# Altium schematic symbol library 1_P1.SCHLIB: 24 symbols
Pins are listed as number, name and electrical type; pins without a type are passive.

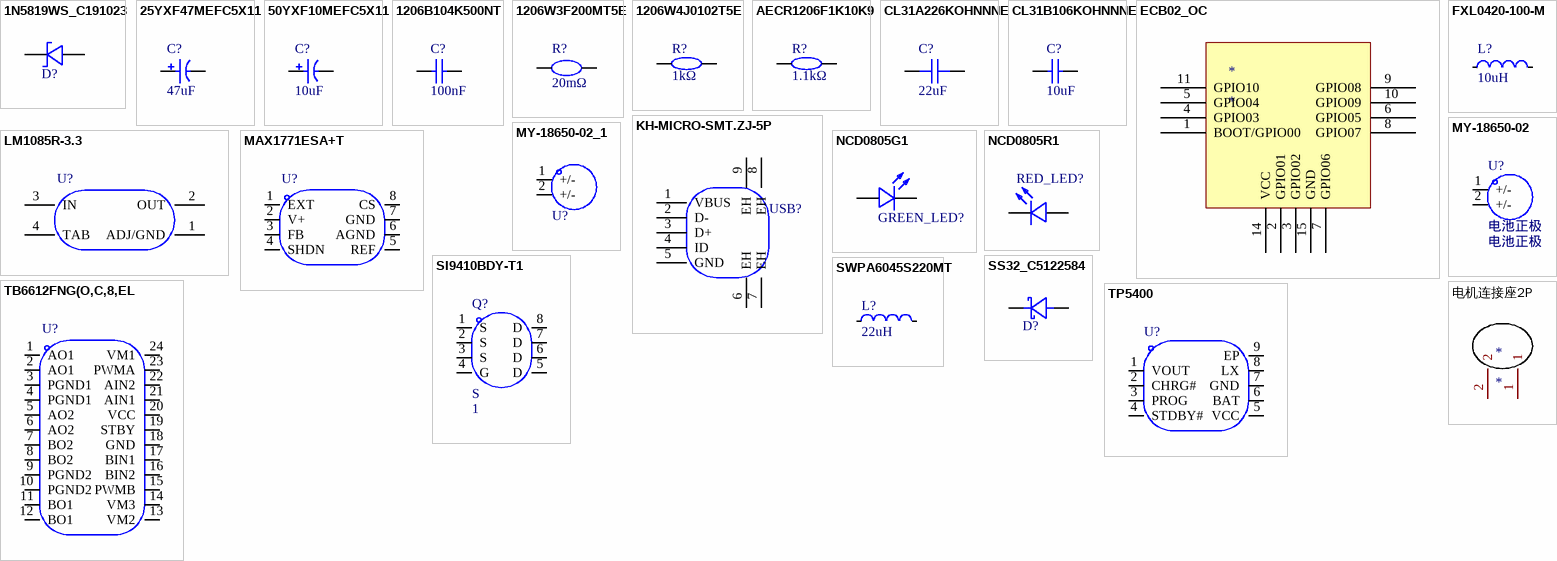
[diagram p0: symbols 1N5819WS_C191023 to 电机连接座2P]

## 1N5819WS_C191023
designator D?
Manufacturer: Hottech(合科泰); Symbol: 1N5819WS; Device: 1N5819WS_C191023; Add into BOM: yes; Reverse Voltage (Vr): 40V; Average Rectified Current (Io): 1A; Forward Voltage (Vf@If): 600mV@1A; LCSC Part Name: 40V 1A 600mV@1A; Supplier Part: C191023; Manufacturer Part: 1N5819WS; Supplier Footprint: SOD-323; JLCPCB Part Class: Basic Part; Datasheet: https://atta.szlcsc.com/upload/public/pdf/source/20180614/C191023_3C6A6398B911F3A4C23E7538EE054643.pdf; Supplier: LCSC; Convert to PCB: yes
footprint SOD-323_L1.8-W1.3-LS2.5-RD
3D model SOD-323_L1.7-W1.3-H1.1-LS2.5
pins: 1 C, 2 A

## 25YXF47MEFC5X11
designator C?  value 47uF
Manufacturer: rubycon(红宝石); Symbol: 25YXF47MEFC5X11; Add into BOM: yes; Lifetime @ Temp: 5000hrs 105; Equivalent Series Resistance(ESR): 900mΩ 100kHz; Ripple Current: 150mA 100kHz; φD: 5mm; Tolerance: ±20%; L: 11mm; Rated Voltage: 25V; Device: 25YXF47MEFC5X11; LCSC Part Name: 47uF 25V; Supplier Part: C88724; Manufacturer Part: 25YXF47MEFC5X11; Supplier Footprint: 径向引线,5x11mm; JLCPCB Part Class: Extended Part; Datasheet: https://atta.szlcsc.com/upload/public/pdf/source/20161125/1480067870852.pdf; Supplier: LCSC; Convert to PCB: yes; Lead Spacing: 2mm; Operating Temperature: -
footprint CAP-TH_BD5.0-P2.00-D0.8-FD
3D model CAP-TH_D5.0H7.0P2.0
pins: 1, 2

## 50YXF10MEFC5X11
designator C?  value 10uF
Manufacturer: rubycon(红宝石); Symbol: 50YXF10MEFC5X11; Add into BOM: yes; Lifetime @ Temp: 5000hrs 105; Rated Voltage: 50V; Tolerance: ±20%; φD: 5mm; L: 11mm; Device: 50YXF10MEFC5X11; LCSC Part Name: 10uF 50V; Supplier Part: C88726; Manufacturer Part: 50YXF10MEFC5X11; Supplier Footprint: 径向引线,5x11mm; JLCPCB Part Class: Extended Part; Datasheet: https://atta.szlcsc.com/upload/public/pdf/source/20161125/1480067871572.pdf; Supplier: LCSC; Convert to PCB: yes; Lead Spacing: 2mm; Operating Temperature: -
footprint CAP-TH_BD5.0-P2.00-D0.8-FD
3D model CAP-TH_D5.0H7.0P2.0
pins: 1, 2

## 1206B104K500NT
designator C?  value 100nF
Manufacturer: FH(风华); Symbol: 1206B104K500NT; Add into BOM: yes; Tolerance: ±10%; Voltage Rated: 50V; Temperature Coefficient: X7R; Device: 1206B104K500NT; LCSC Part Name: 100nF ±10% 50V; Supplier Part: C110253; Manufacturer Part: 1206B104K500NT; Supplier Footprint: 1206; JLCPCB Part Class: Extended Part; Datasheet: https://atta.szlcsc.com/upload/public/pdf/source/20170923/C110253_1506149246670988311.pdf; Supplier: LCSC; Convert to PCB: yes
footprint C1206
3D model C1206_L3.2-W1.6-H1.3
pins: 1, 2

## 1206W3F200MT5E
designator R?  value 20mΩ
Manufacturer: UNI-ROYAL(厚声); Symbol: 1206W3F200MT5E; Add into BOM: yes; Tolerance: ±1%; Power(Watts): 1/3W; Temperature Coefficient: ±1000ppm/; Overload Voltage (Max): 200V; Device: 1206W3F200MT5E; LCSC Part Name: 20mΩ ±1%; Supplier Part: C2765435; Manufacturer Part: 1206W3F200MT5E; Supplier Footprint: 1206; JLCPCB Part Class: Extended Part; Datasheet: https://atta.szlcsc.com/upload/public/pdf/source/20200306/C422600_1E6D84923E4A46A82E41ADD87F860B5C.pdf; Supplier: LCSC; Convert to PCB: yes; Type: 厚膜电阻; Operating Temperature Range: -55~+155
footprint R1206
3D model R1206_L3.2-W1.6-H0.6
pins: 1, 2

## 1206W4J0102T5E
designator R?  value 1kΩ
Manufacturer: UNI-ROYAL(厚声); Symbol: 1206W4J0102T5E; Add into BOM: yes; Tolerance: ±5%; Power(Watts): 250mW; Temperature Coefficient: ±100ppm/; Overload Voltage (Max): 200V; Device: 1206W4J0102T5E; LCSC Part Name: 1kΩ ±5%; Supplier Part: C1469; Manufacturer Part: 1206W4J0102T5E; Supplier Footprint: 1206; JLCPCB Part Class: Extended Part; Datasheet: https://atta.szlcsc.com/upload/public/pdf/source/20200306/C422600_1E6D84923E4A46A82E41ADD87F860B5C.pdf; Supplier: LCSC; Convert to PCB: yes; Type: 厚膜电阻; Operating Temperature Range: -55~+155
footprint R1206
3D model R1206_L3.2-W1.6-H0.6
pins: 1, 2

## AECR1206F1K10K9
designator R?  value 1.1kΩ
Manufacturer: RESI(开步睿思）; Symbol: AECR1206F1K10K9; Add into BOM: yes; Tolerance: ±1%; Power(Watts): 250mW; Temperature Coefficient: ±100ppm/; Overload Voltage (Max): 200V; Device: AECR1206F1K10K9; LCSC Part Name: 1.1kΩ ±1%; Supplier Part: C352136; Manufacturer Part: AECR1206F1K10K9; Supplier Footprint: 1206; JLCPCB Part Class: Extended Part; Datasheet: https://atta.szlcsc.com/upload/public/pdf/source/20181212/C352136_D341163928B058579362732989CD352F.pdf; Supplier: LCSC; Convert to PCB: yes; Type: 厚膜电阻; Operating Temperature Range: -55~+125
footprint R1206
3D model R1206_L3.2-W1.6-H0.6
pins: 1, 2

## CL31A226KOHNNNE
designator C?  value 22uF
Manufacturer: SAMSUNG(三星); Symbol: CL31A226KOHNNNE; Add into BOM: yes; Temperature Coefficient: X5R; Tolerance: ±10%; Voltage Rated: 16V; Device: CL31A226KOHNNNE; LCSC Part Name: 22uF(226）±10% 16V; Supplier Part: C90146; Manufacturer Part: CL31A226KOHNNNE; Supplier Footprint: 1206; JLCPCB Part Class: Extended Part; Datasheet: https://atta.szlcsc.com/upload/public/pdf/source/20161228/1482890861309.pdf; Supplier: LCSC; Convert to PCB: yes
footprint C1206
3D model C1206_L3.2-W1.6-H1.3
pins: 1, 2

## CL31B106KOHNNNE
designator C?  value 10uF
Manufacturer: SAMSUNG(三星); Symbol: CL31B106KOHNNNE; Add into BOM: yes; Tolerance: ±10%; Voltage Rated: 16V; Temperature Coefficient: X7R; Device: CL31B106KOHNNNE; LCSC Part Name: 10uF ±10% 16V; Supplier Part: C47971; Manufacturer Part: CL31B106KOHNNNE; Supplier Footprint: 1206; JLCPCB Part Class: Extended Part; Datasheet: https://atta.szlcsc.com/upload/public/pdf/source/20160103/1457707729539.pdf; Supplier: LCSC; Convert to PCB: yes
footprint C1206
3D model C1206_L3.2-W1.6-H1.3
pins: 1, 2

## ECB02_OC
designator *
footprint ECB02_OC (易加蓝牙单片机)
pins: 1 BOOT/GPIO00, 2 GPIO01, 3 GPIO02, 4 GPIO03, 5 GPIO04, 6 GPIO05, 7 GPIO06, 8 GPIO07, 9 GPIO08, 10 GPIO09, 11 GPIO10, 14 VCC, 15 GND

## FXL0420-100-M
designator L?  value 10uH
Manufacturer: cjiang(长江微电); Symbol: FXL0420-100-M; Add into BOM: yes; Tolerance: ±20%; Rated Current: 1.6A; Saturation Current (Isat): 2.2A; DC Resistance (DCR): 256mΩ; Device: FXL0420-100-M; LCSC Part Name: 10uh ±20% 1.6A 256mΩ; Supplier Part: C177242; Manufacturer Part: FXL0420-100-M; Supplier Footprint: SMD,0402; JLCPCB Part Class: Extended Part; Datasheet: https://atta.szlcsc.com/upload/public/pdf/source/20190322/C177242_7133EB0BD355D19A776CED3EC89322B8.pdf; Supplier: LCSC; Convert to PCB: yes
footprint IND-SMD_L4.4-W4.2
3D model IND-SMD_L4.2-W4.4-H2.0
pins: 1, 2

## KH-MICRO-SMT.ZJ-5P
designator USB?
Manufacturer: kinghelm(金航标); Symbol: KH-MICRO-SMT.ZJ-5P; Add into BOM: yes; Connector Type: Micro-B; Gender: 母座; Number of Contacts: 5; Number of Ports: 1; Device: KH-MICRO-SMT.ZJ-5P; LCSC Part Name: Micro-B 母座 卧贴; Supplier Part: C2688803; Manufacturer Part: KH-MICRO-SMT.ZJ-5P; Supplier Footprint: SMD; JLCPCB Part Class: Extended Part; Datasheet: https://atta.szlcsc.com/upload/public/pdf/source/20210202/C2688803_645B8B57EA53555BCB25BD27C52ECCFB.pdf; Supplier: LCSC; Convert to PCB: yes; Standard: USB 2.0; Mounting Style: 卧贴; Current Rating - Power (Max): -; Operating Temperature Range: -30~+80
footprint MICRO-USB-SMD_KH-MICRO-SMT.ZJ-5P
3D model MICRO-USB-SMD_KH-MICRO-SMT.ZJ-5P
pins: 1 VBUS, 2 D-, 3 D+, 4 ID, 5 GND, 6 EH, 7 EH, 8 EH, 9 EH

## LM1085R-3.3
designator U?
Manufacturer: HTC; Symbol: LM1085R-3.3; Add into BOM: yes; Output Type: 固定; Output Polarity: 正; Number of Outputs: 1; Maximum Input Voltage: 12V; Output Voltage: 3.3V; Dropout Voltage: 1.5V@(3A); Output Current: 3A; Device: LM1085R-3.3; LCSC Part Name: Vin=12V Vout=3.3V 3A; Supplier Part: C126016; Manufacturer Part: LM1085R-3.3; Supplier Footprint: TO-263-3; JLCPCB Part Class: Extended Part; Datasheet: https://atta.szlcsc.com/upload/public/pdf/source/20170814/C126016_1502678369734885888.pdf; Supplier: LCSC; Convert to PCB: yes; Power Supply Rejection Ratio (PRSS): -
footprint TO-263-3L_L10.0-W9.2-P2.54-TL
3D model TO-263-3_L10.2-W8.7-H4.5-LS14.4-P2.54
pins: 1 ADJ/GND, 2 OUT, 3 IN, 4 TAB

## MAX1771ESA+T
designator U?
Manufacturer: MAXIM(美信); Symbol: MAX1771ESA+T; Add into BOM: yes; Function: 升降压型; Synchronous Rectification: 否; Number of Outputs: 1; Topology: 升降压式；升压式; Input Voltage: 3V~16.5V; Switching Frequency: 300kHz; Duty Cycle (Max): 92%; Device: MAX1771ESA+T; LCSC Part Name: 升降压型 3V~16.5V 300kHz; Supplier Part: C407903; Manufacturer Part: MAX1771ESA+T; Supplier Footprint: SO-8; JLCPCB Part Class: Extended Part; Datasheet: https://atta.szlcsc.com/upload/public/pdf/source/20190725/C407903_D57A782B028863ED6FB84B5C72F3E59A.pdf; Supplier: LCSC; Convert to PCB: yes; Operating Temperature: -40~+85@(TA)
footprint SO-8_L4.9-W3.9-P1.27-LS6.0-BL
3D model SO-8_L4.9-W3.9-P1.27-LS6.0-BL
pins: 1 EXT, 2 V+, 3 FB, 4 SHDN, 5 REF, 6 AGND, 7 GND, 8 CS

## MY-18650-02
designator U?, comment 电池正极
Manufacturer: MYOUNG(美阳); Symbol: MY-18650-02; Add into BOM: yes; Name: 电池正极; Device: MY-18650-02; LCSC Part Name: 18650电池夹; Supplier Part: C2979182; Manufacturer Part: MY-18650-02; Supplier Footprint: SMD; JLCPCB Part Class: Extended Part; Datasheet: https://atta.szlcsc.com/upload/public/pdf/source/20220302/C8C484F04049224A79B93DF7FB83EA3E.pdf; Supplier: LCSC; Convert to PCB: yes
footprint BAT-SMD_MY-18650-02
3D model BAT-SMD_MY-18650-02
pins: 1 +/-, 2 +/-

## MY-18650-02_1
designator U?, comment 电池负极  (value not drawn)
Manufacturer: MYOUNG(美阳); Symbol: MY-18650-02; Add into BOM: yes; Name: 电池负极; Device: MY-18650-02; LCSC Part Name: 18650电池夹; Supplier Part: C2979182; Manufacturer Part: MY-18650-02; Supplier Footprint: SMD; JLCPCB Part Class: Extended Part; Datasheet: https://atta.szlcsc.com/upload/public/pdf/source/20220302/C8C484F04049224A79B93DF7FB83EA3E.pdf; Supplier: LCSC; Convert to PCB: yes
footprint BAT-SMD_MY-18650-02 (Footprint not found)
3D model BAT-SMD_MY-18650-02
pins: 1 +/-, 2 +/-

## NCD0805G1
designator GREEN_LED?
Manufacturer: 国星光电; Symbol: FC-2012UGK-520D5; Device: NCD0805G1; Add into BOM: yes; Emitted Color: 翠绿; LCSC Part Name: 翠绿; Supplier Part: C84260; Manufacturer Part: NCD0805G1; Supplier Footprint: 0805; JLCPCB Part Class: Extended Part; Datasheet: https://atta.szlcsc.com/upload/public/pdf/source/20200820/C84260_AFC7BF57C6FBA034D182BB8D10A67EFE.pdf; Supplier: LCSC; Convert to PCB: yes
footprint LED0805-R-RD
3D model LED0805-RD
pins: 1 A, 2 K

## NCD0805R1
designator RED_LED?
Manufacturer: 国星光电; Symbol: FC-2012HRK-620D; Device: NCD0805R1; Add into BOM: yes; Emitted Color: 红灯; LCSC Part Name: 红灯; Supplier Part: C84256; Manufacturer Part: NCD0805R1; Supplier Footprint: 0805; JLCPCB Part Class: Basic Part; Datasheet: https://atta.szlcsc.com/upload/public/pdf/source/20200820/C84256_F0A75A43B3EAD75808600A0514C76B99.pdf; Supplier: LCSC; Convert to PCB: yes
footprint LED0805-RD_RED
3D model LED0805-RD_RED
pins: 1 -, 2 +

## SI9410BDY-T1
designator Q?  NAME: S  NUMBER: 1
Manufacturer: VBsemi(台湾微碧); Symbol: SI9410BDY-T1; Add into BOM: yes; Type: N沟道; Drain Source Voltage (Vdss): 20V; Continuous Drain Current (Id): 12A; Power Dissipation (Pd): 4.1W; Drain Source On Resistance (RDS(on)@Vgs,Id): 12mΩ@10V,10A; Gate Threshold Voltage (Vgs(th)@Id): 3V@250A; Device: SI9410BDY-T1; LCSC Part Name: N沟道 20V 12A; Supplier Part: C693120; Manufacturer Part: SI9410BDY-T1; Supplier Footprint: SO-8; JLCPCB Part Class: Extended Part; Datasheet: https://atta.szlcsc.com/upload/public/pdf/source/20200629/C693120_9442D1F62BD0C6EF38A6042147AFDDA4.pdf; Supplier: LCSC; Convert to PCB: yes
footprint SO-8_L4.9-W3.9-P1.27-LS5.9-BL
3D model SO-8_L4.9-W3.9-H1.5-LS5.9-P1.27
pins: 1 S, 2 S, 3 S, 4 G, 5 D, 6 D, 7 D, 8 D

## SS32_C5122584
designator D?
Manufacturer: Slkor(萨科微); Manufacturer Part: SS32; Symbol: SS32_C5122584; Add into BOM: yes; Device: SS32_C5122584; LCSC Part Name: SS32; Supplier Part: C5122584; Supplier Footprint: SMA; JLCPCB Part Class: Extended Part; Datasheet: https://atta.szlcsc.com/upload/public/pdf/source/20220804/C2CBEEDC4A6687667FB4163A81F443B6.pdf; Supplier: LCSC; Convert to PCB: yes
footprint SMA_L4.3-W2.6-LS5.1-RD
3D model SMA_L4.3-W2.6-LS5.1-RD
pins: 1, 2

## SWPA6045S220MT
designator L?  value 22uH
Manufacturer: Sunlord(顺络); Symbol: SWPA6045S220MT; Add into BOM: yes; Tolerance: ±20%; Rated Current: 1.8A; DC Resistance (DCR): 89mΩ; Device: SWPA6045S220MT; LCSC Part Name: 22uH ±20% 1.8A 89mΩ; Supplier Part: C83454; Manufacturer Part: SWPA6045S220MT; Supplier Footprint: SMD; JLCPCB Part Class: Extended Part; Datasheet: https://atta.szlcsc.com/upload/public/pdf/source/20210916/AC798BA7E846B7D0B6818F45CD84DB0B.pdf; Supplier: LCSC; Convert to PCB: yes
footprint IND-SMD_L6.0-W6.0_SWPA6045S
3D model IND-SMD_L6.0-W6.0-H4.5
pins: 1, 2

## TB6612FNG(O,C,8,EL
designator U?
Manufacturer: TOSHIBA(东芝); Symbol: TB6612FNG(O,C,8,EL; Add into BOM: yes; Device: TB6612FNG(O,C,8,EL; LCSC Part Name: TB6612FNG(O,C,8,EL; Supplier Part: C88224; Manufacturer Part: TB6612FNG(O,C,8,EL; Supplier Footprint: SSOP-24_208mil; JLCPCB Part Class: Extended Part; Datasheet: https://atta.szlcsc.com/upload/public/pdf/source/20170412/1491969113864.pdf; Supplier: LCSC; Convert to PCB: yes
footprint SSOP-24_L8.4-W5.8-P0.65-LS7.8-BL
3D model SSOP-24_L8.4-W5.3-H2.0-LS7.8-P0.65
pins: 1 AO1, 2 AO1, 3 PGND1, 4 PGND1, 5 AO2, 6 AO2, 7 BO2, 8 BO2, 9 PGND2, 10 PGND2, 11 BO1, 12 BO1, 13 VM2, 14 VM3, 15 PWMB, 16 BIN2, 17 BIN1, 18 GND, 19 STBY, 20 VCC, 21 AIN1, 22 AIN2, 23 PWMA, 24 VM1

## TP5400
designator U?
Manufacturer: TOPPOWER(南京拓微); Symbol: TP5400_C2891434; Device: TP5400; Add into BOM: yes; LCSC Part Name: TP5400; Supplier Part: C2891434; Manufacturer Part: TP5400; Supplier Footprint: ESOP-8; JLCPCB Part Class: Extended Part; Datasheet: https://atta.szlcsc.com/upload/public/pdf/source/20210909/352D9D40D77A1DD73F7904E364EF004B.pdf; Supplier: LCSC; Convert to PCB: yes
footprint ESOP-8_L4.9-W3.9-P1.27-LS6.0-BL-EP
3D model ESOP-8_L4.9-W3.9-H1.6-LS6.0-P1.27
pins: 1 VOUT, 2 CHRG#, 3 PROG, 4 STDBY#, 5 VCC, 6 BAT, 7 GND, 8 LX, 9 EP

## 电机连接座2P
designator *
footprint 电机连接座2P
pins: 1, 2